# Altium schematic symbol library Sigma_Library.SchLib: 54 symbols
Pins are listed as number, name and electrical type; pins without a type are passive.

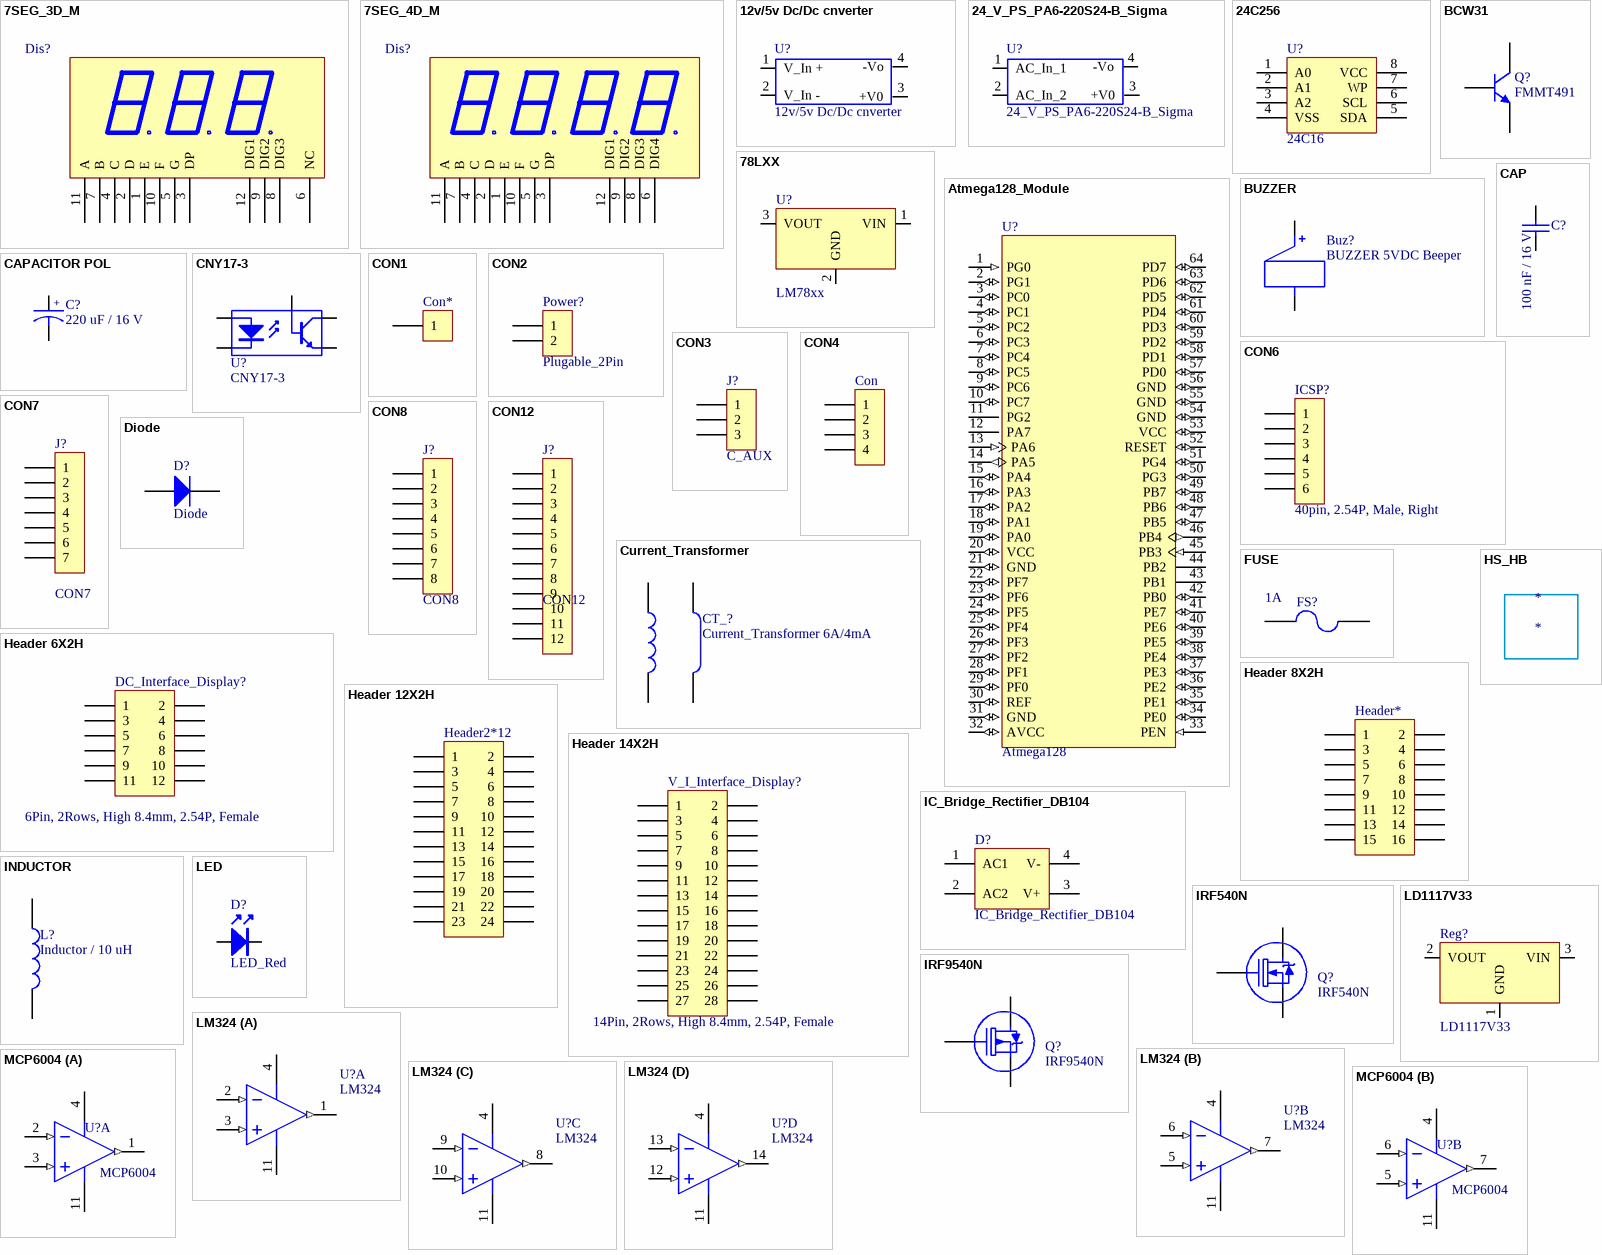
[diagram p0: symbols 7SEG_3D_M to MCP6004]

## 7SEG_3D_M
designator Dis?, comment 7SEG_3D_0.4_Inch_High red Led _Common Cathod_Black  (value not drawn)
7_Segment_Common_Cathod; SMD/TH: TH; DPM/VM/AM: DPM
footprint 7SEG-0.4"_3Digit
pins: 1 E, 2 D, 3 DP, 4 C, 5 G, 6 NC, 7 B, 8 DIG3, 9 DIG2, 10 F, 11 A, 12 DIG1

## 7SEG_4D_M
designator Dis?, comment 7SEG_4D_0.5_Inch_High red Led _Common Cathod_Black  (value not drawn)
7_Segment_Common_Cathod; SMD/TH: TH; DPM/VM/AM: DPM
footprint 7SEG-56-4Digits
pins: 1 E, 2 D, 3 DP, 4 C, 5 G, 6 DIG4, 7 B, 8 DIG3, 9 DIG2, 10 F, 11 A, 12 DIG1

## 12v/5v Dc/Dc cnverter
designator U?
SMD/TH: TH
footprint DC/DC Converter
pins: 1 V_In +, 2 V_In -, 3 +V0, 4 -Vo

## 24_V_PS_PA6-220S24-B_Sigma
designator U?
24 V Power Supply 0.21 A; SMD/TH: TH
footprint 24_V_PS_PA6-220S24-B_SIGMA
pins: 1 AC_In_1, 2 AC_In_2, 3 +V0, 4 -Vo

## 24C256
designator U?, comment 24C16
EEPROM; DPM/VM/AM: DPM, VM, AM; Note: Not_Assembled; SMD/TH: SMD
footprint SO-G8/E4.1 (Small Outline; 8 Leads; Body Width 5.3 mm; Pitch 1.27 mm)
pins: 1 A0, 2 A1, 3 A2, 4 VSS, 5 SDA, 6 SCL, 7 WP, 8 VCC (power)

## 78LXX
designator U?, comment LM78xx
Regulator; note: PFC/SC; SMD/TH: TH
footprint TO252
footprint 78MXX2
pins: 1 VIN, 2 GND, 3 VOUT

## Atmega128_Module
designator U?, comment Atmega128
Atmega128_Module; Text Field7: Published 8-Jun-2000.; SMD/TH: SMD; DPM/VM/AM: DPM, VM, AM
pins: 1 PG0 (in), 2 PG1 (io), 3 PC0 (io), 4 PC1 (io), 5 PC2 (io), 6 PC3 (io), 7 PC4 (io), 8 PC5 (io), 9 PC6 (io), 10 PC7 (io), 11 PG2 (power), 12 PA7 (power), 13 PA6 (in), 14 PA5 (out), 15 PA4 (io), 16 PA3 (io), 17 PA2 (io), 18 PA1 (io), 19 PA0 (io), 20 VCC (io), 21 GND (io), 22 PF7 (io), 23 PF6 (io), 24 PF5 (io), 25 PF4 (io), 26 PF3 (io), 27 PF2 (io), 28 PF1 (io), 29 PF0 (io), 30 REF (io), 31 GND (io), 32 AVCC (io), 33 PEN (in), 34 PE0 (io), 35 PE1 (io), 36 PE2 (io), 37 PE3 (io), 38 PE4 (io), 39 PE5 (io), 40 PE6 (io), 41 PE7 (io), 42 PB0 (io), 43 PB1 (power), 44 PB2 (power), 45 PB3 (in), 46 PB4 (out), 47 PB5 (io), 48 PB6 (io), 49 PB7 (io), 50 PG3 (io), 51 PG4 (io), 52 RESET (io), 53 VCC (io), 54 GND (io), 55 GND (io), 56 GND (io), 57 PD0 (io), 58 PD1 (io), 59 PD2 (io), 60 PD3 (io), 61 PD4 (io), 62 PD5 (io), 63 PD6 (io), 64 PD7 (io)

## BCW31
designator Q?, comment FMMT491
NPN Epitaxial Silicon Transistor; SMD/TH: SMD
footprint SOT23_NPN
pins: 1 B, 2 E, 3 C

## BUZZER
designator Buz?, comment BUZZER 5VDC Beeper
Buzzer; SMD/TH: TH; DPM/VM/AM: DPM, VM, AM
footprint Buzzer
pins: 1, 2

## CAP
designator C?, comment 100 nF / 16 V
Capacitors; SMD/TH: SMD; DPM/VM/AM: DPM, VM, AM
footprint 1206
footprint 0402
footprint 2220 (Chip Capacitor, 2-Leads, Body 5.70x5.00mm, IPC Medium Density)
footprint 0603
footprint 0805
footprint 2512 (Power SMD Resistor)
footprint C100
footprint C150
footprint C200
pins: 1, 2

## CAPACITOR POL
designator C?, comment 220 uF / 16 V
Electrolytic Capacitors; SMD/TH: TH; DPM/VM/AM: DPM, VM, AM
footprint CAP-1
footprint CAP-1.5
footprint CAP-2
footprint CAP-25
pins: 1, 2
text: +

## CNY17-3
designator U?
Phototransistor Optocoupler; SMD/TH: TH
footprint SMD-6
footprint DIP6
pins: 1 A, 2 K, 4 E, 5 C, 6 B

## CON1
designator Con*
Connector; SMD/TH: TH
footprint SIP1 (Connector 1)
footprint SIP2
footprint TB2 - V (Terminal Block Vertical)
footprint TB2-WITH_SCREWS (TB2-with_screws_Straight)
footprint Terminal
footprint WIRE6MM
pins: 1

## CON2
designator Power?, comment Plugable_2Pin
Connector; SMD/TH: TH
footprint TB2 (Terminal Block Straight)
footprint SIP2
footprint TB2 - V (Terminal Block Vertical)
footprint TB2-WITH_SCREWS (TB2-with_screws_Straight)
footprint Terminal
pins: 1, 2

## CON3
designator J?, comment C_AUX
Connector; note: SC; SMD/TH: TH
footprint TB3 (Terminal Block Straight)
footprint SIP3
footprint TB3 - V (Terminal Block Vertical)
footprint TB3-WITH_SCREWS (TB2-with_screws_Straight)
pins: 1, 2, 3

## CON4
designator Con
4Pin_pinHeader; SMD/TH: TH; DPM/VM/AM: DPM, VM, AM
footprint SIP4
footprint TB4 (Terminal Block Straight)
footprint TB4 - V (Terminal Block Vertical)
footprint TB4-WITH_SCREWS (TB3-with_screws)
pins: 1, 2, 3, 4

## CON6
designator ICSP?, comment 40pin, 2.54P, Male, Right
6Pin_pinHeader; SMD/TH: TH; DPM/VM/AM: DPM, VM, AM
footprint SIP6
footprint TB6 (Terminal Block Straight)
footprint TB6 - V (Terminal Block Vertical)
footprint TB6-WITH_SCREWS (TB3-with_screws)
pins: 1, 2, 3, 4, 5, 6

## CON7
designator J?
Connector; SMD/TH: TH
footprint SIP8
footprint TB8
pins: 1, 2, 3, 4, 5, 6, 7

## CON8
designator J?
Connector; SMD/TH: TH
footprint SIP8
footprint TB8
pins: 1, 2, 3, 4, 5, 6, 7, 8

## CON12
designator J?
Connector; SMD/TH: TH
footprint SIP12
pins: 1, 2, 3, 4, 5, 6, 7, 8, 9, 10, 11, 12

## Current_Transformer
designator CT_?, comment Current_Transformer 6A/4mA
Current_Transformer_6A/4mA; SMD/TH: TH; DPM/VM/AM: DPM, AM
footprint CURRENT_TRANSFORMER (CT6A / 4mA)
pins: 1, 2, 3, 4

## Diode
designator D?
SMD/TH: SMD
simulation model 1N4148 (DIODE)
signal-integrity model 1N4148
footprint DO-201AD
footprint D3
footprint DO214AA_1_2
footprint DO-214AB
footprint DO-214AC
footprint D3_V
footprint SOD523
pins: A, K

## FUSE
designator FS?  value 1A  (hidden comment: FUSE)
footprint FUSE - PS30
footprint PCB_FUSE
pins: 1, 2

## Header 6X2H
designator DC_Interface_Display?, comment 6Pin, 2Rows, High 8.4mm, 2.54P, Female
12Pin_pinHeader; SMD/TH: SMD; DPM/VM/AM: DPM, VM, AM; LatestRevisionDate: 17-Jul-2002; LatestRevisionNote: Re-released for DXP Platform.; Publisher: Altium Limited
footprint IDC12 - SMD
signal-integrity model Connector
footprint IDC12
pins: 1, 2, 3, 4, 5, 6, 7, 8, 9, 10, 11, 12

## Header 8X2H
designator Header*
16Pin Header; SMD/TH: SMD; DPM/VM/AM: DPM, VM, AM; LatestRevisionDate: 17-Jul-2002; LatestRevisionNote: Re-released for DXP Platform.; Publisher: Altium Limited
signal-integrity model Connector
footprint HDR2X8 (Connector; Header; 4x2 Position)
pins: 1, 2, 3, 4, 5, 6, 7, 8, 9, 10, 11, 12, 13, 14, 15, 16

## Header 12X2H
designator Header2*12
24Pin_pinHeader; SMD/TH: SMD; DPM/VM/AM: DPM, VM, AM; LatestRevisionDate: 17-Jul-2002; LatestRevisionNote: Re-released for DXP Platform.; Publisher: Altium Limited
signal-integrity model Connector
footprint HDR2X12 (Connector; Header; 12*2 Position)
pins: 1, 2, 3, 4, 5, 6, 7, 8, 9, 10, 11, 12, 13, 14, 15, 16, 17, 18, 19, 20, 21, 22, 23, 24

## Header 14X2H
designator V_I_Interface_Display?, comment 14Pin, 2Rows, High 8.4mm, 2.54P, Female
28Pin_pinHeader; SMD/TH: SMD; DPM/VM/AM: DPM, VM, AM; LatestRevisionDate: 17-Jul-2002; LatestRevisionNote: Re-released for DXP Platform.; Publisher: Altium Limited
footprint IDC28 - SMD
signal-integrity model Connector
footprint IDC28
pins: 1, 2, 3, 4, 5, 6, 7, 8, 9, 10, 11, 12, 13, 14, 15, 16, 17, 18, 19, 20, 21, 22, 23, 24, 25, 26, 27, 28

## HS_HB
designator *
footprint SigmaHbrdgHeatSink

## IC_Bridge_Rectifier_DB104
designator D?
Diode Bridge; SMD/TH: TH
simulation model BRIDGE (Spice Subcircuit)
footprint SDB-1
footprint Bridge_Rectifier
footprint Bridge - rec (KBU610)
pins: 1 AC1, 2 AC2, 3 V+, 4 V-

## INDUCTOR
designator L?, comment Inductor / 10 uH
10 uH / Inductor; SMD/TH: SMD; DPM/VM/AM: DPM, VM, AM
footprint IND3
footprint 1206
pins: 1, 2

## IRF540N
designator Q?
N-Channel MOSFET; Published: 8-Jun-2000; LatestRevisionDate: 17-Jul-2002; LatestRevisionNote: Re-released for DXP Platform.; PackageVersion: 1995/1996; PackageReference: E3; Publisher: Altium Limited; PackageDescription: TO, Flat Index; 3 In-Line, Axial Leads; Body Dia. 4.6mm; Lead Dia. 0.5 mm (max)
simulation model NMOS (MOSFET-N)
footprint To220
footprint TO247
pins: 1 G, 2 D, 3 S

## IRF9540N
designator Q?
P-Channel MOSFET; Published: 8-Jun-2000; LatestRevisionDate: 17-Jul-2002; LatestRevisionNote: Re-released for DXP Platform.; PackageVersion: 1995/1996; PackageReference: E3; Publisher: Altium Limited; PackageDescription: TO, Flat Index; 3 In-Line, Axial Leads; Body Dia. 4.6mm; Lead Dia. 0.5 mm (max)
simulation model NMOS (MOSFET-N)
footprint To220
pins: 1 G, 2 D, 3 S

## LD1117V33
designator Reg?
Regulator 3.3V; SMD/TH: SMD; DPM/VM/AM: DPM, VM, AM
footprint SOT-223 (SOT-223/SC-73; 4 Leads; Body 6.7 x 7.3 mm, inc. leads (LxW max))
footprint 78MXX2
pins: 1 GND, 2 VOUT, 3 VIN

## LED
designator D?, comment LED_Red
Led_Red_1206; SMD/TH: SMD; DPM/VM/AM: DPM, VM, AM
footprint LED3
footprint 1206 - LED (D?)
footprint LED5
pins: A 1, K 2

## LM324
designator U?
Low Power Quad Operational Amplifier; SMD/TH: SMD; DPM/VM/AM: DPM, VM
footprint SO-G14/D10.5 (Small Outline; 14 Leads; Body Width 5.3 mm; Pitch 1.27 mm)
simulation model LM324 (SUBCKT)
footprint SO14_M (14-Pin Small Outline Integrated Circuit 1.27 mm Pitch, IPC Low Density)
footprint dip14
part A pins: 1 1 OUT (out), 2 1 IN- (in), 3 1 IN+ (in), 4 VCC (power), 11 VEE (power)
part B pins: 4 VCC (power), 5 2 IN+ (in), 6 2 IN- (in), 7 2 OUT (out), 11 VEE (power)
part C pins: 4 VCC (power), 8 3 OUT (out), 9 3 IN- (in), 10 3 IN+ (in), 11 VEE (power)
part D pins: 4 VCC (power), 11 VEE (power), 12 4 IN+ (in), 13 4 IN- (in), 14 4 OUT (out)

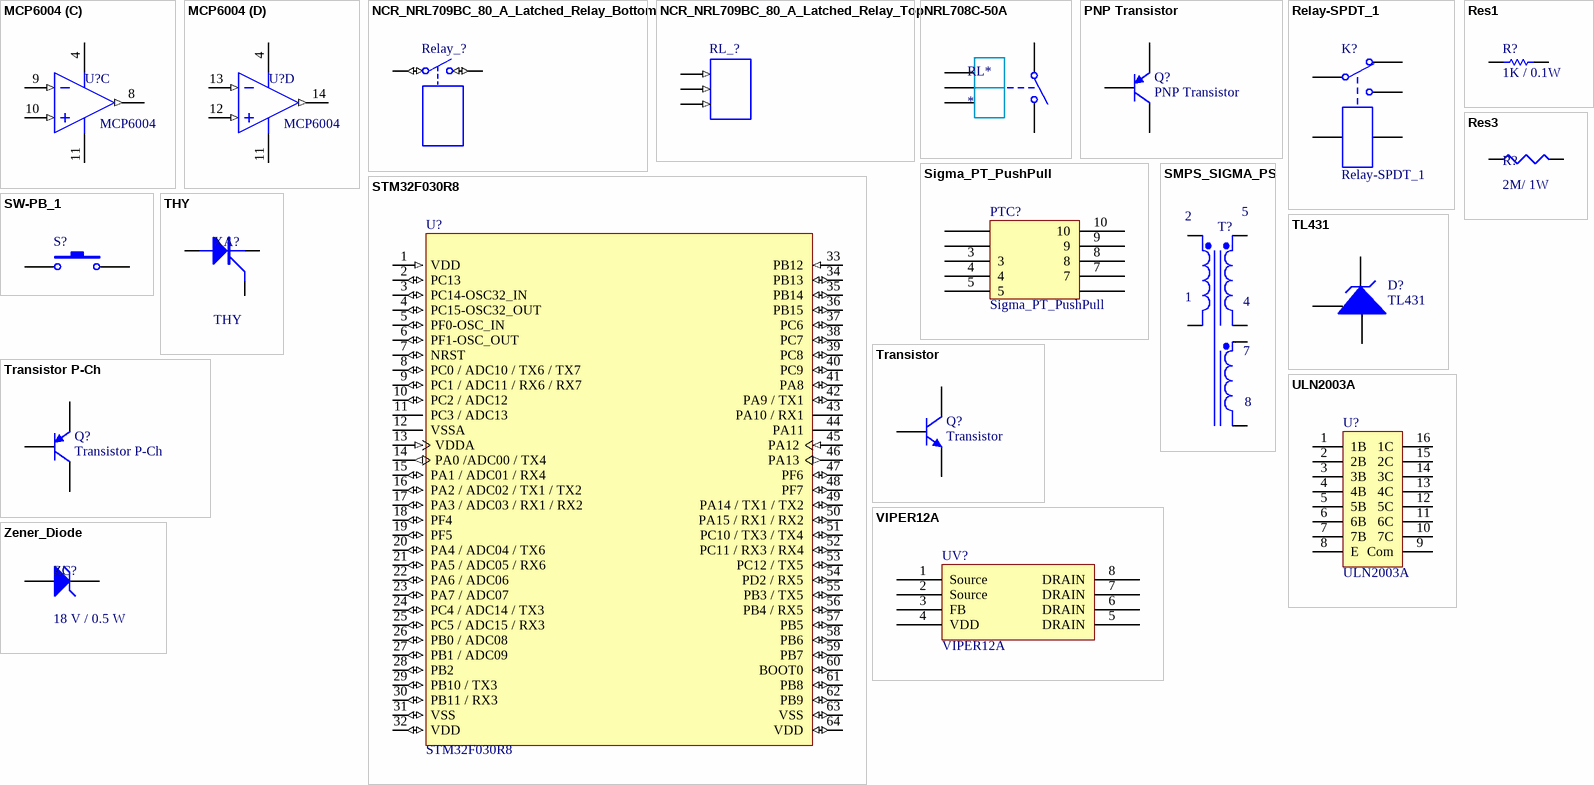
[diagram p1: symbols MCP6004 to Zener_Diode]

## MCP6004
designator U?
Low Power Quad Operational Amplifier; note: SC; SMD/TH: SMD
footprint SO14_M (14-Pin Small Outline Integrated Circuit 1.27 mm Pitch, IPC Low Density)
simulation model LM324 (SUBCKT)
footprint DIP14
part A pins: 1 1 OUT (out), 2 1 IN- (in), 3 1 IN+ (in), 4 VCC (power), 11 VEE (power)
part B pins: 4 VCC (power), 5 2 IN+ (in), 6 2 IN- (in), 7 2 OUT (out), 11 VEE (power)
part C pins: 4 VCC (power), 8 3 OUT (out), 9 3 IN- (in), 10 3 IN+ (in), 11 VEE (power)
part D pins: 4 VCC (power), 11 VEE (power), 12 4 IN+ (in), 13 4 IN- (in), 14 4 OUT (out)

## NCR_NRL709BC_80_A_Latched_Relay_Bottom
designator Relay_?
80 A Latched Relay; SMD/TH: TH
simulation model SPSTRELAY (Spice Subcircuit)
footprint NCR_NRL709BC_80_A_LATCHED_RELAY
pins: Common C (io), NO (io)

## NCR_NRL709BC_80_A_Latched_Relay_Top
designator RL_?
80 A Latched Relay; SMD/TH: TH
footprint NCR_NRL709BC_80_A_LATCHED_RELAY - TOP
simulation model SPSTRELAY (Spice Subcircuit)
pins: 1 (in), 2 (in), 3 (in)

## NRL708C-50A
designator RL*
footprint NRL708C-50A (50 A latch relay pcb mount)
pins: 1, 2, 3, 4, 5

## PNP Transistor
designator Q?
Bipolar (BJT) Transistor PNP 45V 500mA 100MHz 300mW Surface Mount SOT-23-; SMD/TH: SMD; DPM/VM/AM: DPM, VM, AM; PackageDescription: 3-Pin SOT-23 Package 0.95 mm Pitch, 2.4 mm Lead Span
simulation model PNP
signal-integrity model PNP
footprint SOT-23
pins: B, C, E

## Relay-SPDT_1
designator K?
Single-Pole Dual-Throw Relay; note: SC; SMD/TH: TH
footprint RLY-SPDT
simulation model SPDTRELAY (Spice Subcircuit)
pins: 1, 2, 3, 4, 5

## Res1
designator R?, comment 1K / 0.1W
Resistor; SMD/TH: SMD
footprint 0603
simulation model RESISTOR (Resistor)
signal-integrity model Res
footprint 1206
footprint 1210
footprint 2512 (Power SMD Resistor)
footprint 0402
footprint 0805
footprint R1_1
footprint R3
footprint R3_v
footprint R600V
footprint R600
pins: 1, 2

## Res3
designator R?, comment 2M/ 1W
Resistor; SMD/TH: SMD
footprint 0603
simulation model RESISTOR (Resistor)
signal-integrity model Res
footprint 1206
footprint 1210
footprint 2512 (Power SMD Resistor)
footprint 0402
footprint 0805
footprint R1_1
footprint R3
footprint R3_v
footprint R600
footprint R600V
pins: 1, 2

## Sigma_PT_PushPull
designator PTC?
Sigma_Pulse_Transformer_PushPull; SMD/TH: TH
footprint PT&PT 1:1 (Sigma_Pulse_Transformer / Or shufner)
footprint Pulse transformer (Sigma_Pulse_Transformer-pushpull)
pins: 3, 4, 5, 7, 8, 9, 10, ?1 2, ?2 1, ?3 6

## SMPS_SIGMA_PS
designator T?, comment Transformer T9312 178T_12T_56T 5VA  (value not drawn)
Trans. T9312; SMD/TH: TH; DPM/VM/AM: DPM, VM, AM; PackageDescription: Transformer; 5 Leads
footprint SIGMA_SMPS_5_V_PT (Sigma_Pulse_Transformer)
simulation model IDEALTRANSCT (Spice Subcircuit)
pins: 1, 2, 4, 5, 7, 8

## STM32F030R8
designator U?
32-Bit CMOS Microcontroller with A/D Converter; Text Field7: Published 8-Jun-2000.; SMD/TH: SMD; DPM/VM/AM: DPM, VM, AM
footprint LQFP64_M (Thin QFP, 64-Leads, Body 10x10mm, Pitch 0.5mm, IPC Low Density)
footprint LQFP64_M & CONVERTER (Arm_With_Converter)
footprint LQFP64_M - CONVERTER (Arm_Converter)
pins: 1 VDD (in), 2 PC13 (io), 3 PC14-OSC32_IN (io), 4 PC15-OSC32_OUT (io), 5 PF0-OSC_IN (io), 6 PF1-OSC_OUT (io), 7 NRST (io), 8 PC0 / ADC10 / TX6 / TX7 (io), 9 PC1 / ADC11 / RX6 / RX7 (io), 10 PC2 / ADC12 (io), 11 PC3 / ADC13 (power), 12 VSSA (power), 13 VDDA (in), 14 PA0 /ADC00 / TX4 (out), 15 PA1 / ADC01 / RX4 (io), 16 PA2 / ADC02 / TX1 / TX2 (io), 17 PA3 / ADC03 / RX1 / RX2 (io), 18 PF4 (io), 19 PF5 (io), 20 PA4 / ADC04 / TX6 (io), 21 PA5 / ADC05 / RX6 (io), 22 PA6 / ADC06 (io), 23 PA7 / ADC07 (io), 24 PC4 / ADC14 / TX3 (io), 25 PC5 / ADC15 / RX3 (io), 26 PB0 / ADC08 (io), 27 PB1 / ADC09 (io), 28 PB2 (io), 29 PB10 / TX3 (io), 30 PB11 / RX3 (io), 31 VSS (io), 32 VDD (io), 33 PB12 (in), 34 PB13 (io), 35 PB14 (io), 36 PB15 (io), 37 PC6 (io), 38 PC7 (io), 39 PC8 (io), 40 PC9 (io), 41 PA8 (io), 42 PA9 / TX1 (io), 43 PA10 / RX1 (power), 44 PA11 (power), 45 PA12 (in), 46 PA13 (out), 47 PF6 (io), 48 PF7 (io), 49 PA14 / TX1 / TX2 (io), 50 PA15 / RX1 / RX2 (io), 51 PC10 / TX3 / TX4 (io), 52 PC11 / RX3 / RX4 (io), 53 PC12 / TX5 (io), 54 PD2 / RX5 (io), 55 PB3 / TX5 (io), 56 PB4 / RX5 (io), 57 PB5 (io), 58 PB6 (io), 59 PB7 (io), 60 BOOT0 (io), 61 PB8 (io), 62 PB9 (io), 63 VSS (io), 64 VDD (io)

## SW-PB_1
designator S?, comment Press 4Pin 8mmLong 12*12*8mm  (value not drawn)
Tact_Switch; SMD/TH: TH; DPM/VM/AM: DPM, VM, AM; PackageDescription: Switch; 2 Leads
footprint SWPB - duplicate
pins: 1, 2

## THY
designator XA?
SMD/TH: TH
footprint TO247
pins: 1 K, 2 A, 3 G

## TL431
designator D?
Tl431_TI_TL431AIDBZR; SMD/TH: SMD; DPM/VM/AM: DPM, VM, AM
footprint SOT-23-3
footprint SOT-23-3
pins: A, C, R Ref

## Transistor
designator Q?
NPN Epitaxial Silicon Transistor; SMD/TH: SMD
footprint To220
pins: 1 B, 2 C, 3 E

## Transistor P-Ch
designator Q?
SMD PNP Bipolar Transistor; Published: 8-Jun-2000; LatestRevisionDate: 29-May-2009; LatestRevisionNote: IPC-7351 Footprint Added.; PackageVersion: Aug-1999; PackageReference: SOT-23B; Publisher: Altium Limited; PackageDescription: 3-Pin SOT-23 Package 0.95 mm Pitch, 2.4 mm Lead Span
simulation model PNP
signal-integrity model PNP
footprint BC640
pins: 1 E, 2 C, 3 B

## ULN2003A
designator U?
SMD/TH: SMD
footprint SO16
footprint DIP16
pins: 1 1B, 2 2B, 3 3B, 4 4B, 5 5B, 6 6B, 7 7B, 8 E, 9 Com (power), 10 7C, 11 6C, 12 5C, 13 4C, 14 3C, 15 2C, 16 1C

## VIPER12A
designator UV?
SMPS Switcher; SMD/TH: SMD; DPM/VM/AM: DPM, VM, AM
footprint SO-G8/E4.1 (Small Outline; 8 Leads; Body Width 5.3 mm; Pitch 1.27 mm)
pins: 1 Source, 2 Source, 3 FB, 4 VDD, 5 DRAIN, 6 DRAIN, 7 DRAIN, 8 DRAIN

## Zener_Diode
designator ZC?, comment 18 V / 0.5 W
Zener diode; SMD/TH: SMD
footprint SOD123 (SOD-123; 2 Leads; Body 2.7 x 1.6 mm, (LxW))
footprint D3
pins: A, K